# EAGLE library part RV1805C3 (library golledge)
Real Time Clock Module| I2C Bus |Low Power Extremely low current consumption Miniature package with integrated crystal Backup battery input (internal switchover) Trickle charger, power management & switch Programmable alarm, timer and interrupt Datasheet and Purchasing Information <http://www.golledge.com/docs/products/rtcs/rv1805c3.htm?src=eagle>
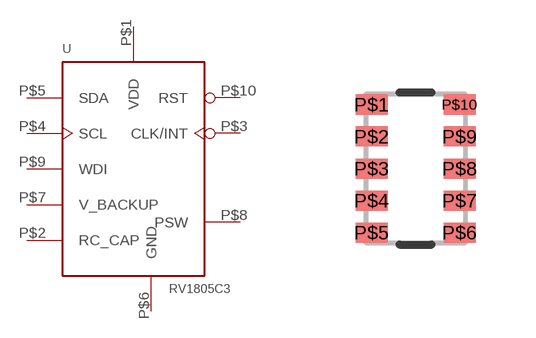
[diagram p7: symbol with the pads of RTC-C3; footprint RTC-C3]

Designator prefix U

## RV1805C3 (HEIGHT: 0.9; MPN: MP06292)  [RTC-C3]
P$1  VDD  pwr
P$2  RC_CAP  pas
P$3  CLK/INT  out
P$4  SCL  in
P$5  SDA  in
P$6  GND  pwr
P$7  V_BACKUP  pas
P$8  PSW  pas
P$9  WDI  in
P$10  RST  out

## Footprint RTC-C3 (pad centres in mm)
RTC module C3 package
smd 0.8 x 0.5: P$1 -1.1,1.6; P$2 -1.1,0.8; P$3 -1.1,0; P$4 -1.1,-0.8; P$5 -1.1,-1.6; P$6 1.1,-1.6; P$7 1.1,-0.8; P$8 1.1,0; P$9 1.1,0.8; P$10 1.1,1.6